# EAGLE library part CY8C284XX (library CY8C4125AXI)
CY8C28403, CY8C28413, CY8C28433, CY8C28445, and CY8C28452 28-Pin PSoC Devices
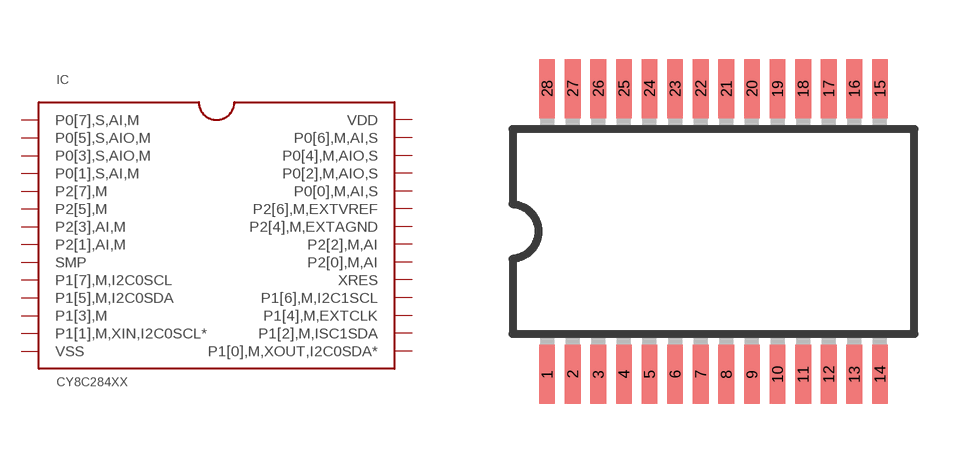
[diagram p15: symbol with the pads of SSOP28; footprint SSOP28]

Designator prefix IC

## CY8C284XX_SSOP28  [SSOP28]
1  P0[7],S,AI,M
2  P0[5],S,AIO,M
3  P0[3],S,AIO,M
4  P0[1],S,AI,M
5  P2[7],M
6  P2[5],M
7  P2[3],AI,M
8  P2[1],AI,M
9  SMP  pwr
10  P1[7],M,I2C0SCL
11  P1[5],M,I2C0SDA
12  P1[3],M
13  P1[1],M,XIN,I2C0SCL*
14  VSS  pwr
15  P1[0],M,XOUT,I2C0SDA*
16  P1[2],M,ISC1SDA
17  P1[4],M,EXTCLK
18  P1[6],M,I2C1SCL
19  XRES
20  P2[0],M,AI
21  P2[2],M,AI
22  P2[4],M,EXTAGND
23  P2[6],M,EXTVREF
24  P0[0],M,AI,S
25  P0[2],M,AIO,S
26  P0[4],M,AIO,S
27  P0[6],M,AI,S
28  VDD  pwr

## Footprint SSOP28 (pad centres in mm)
28-Lead Shrink Small Outline Package SSOP (RS-28) Source: http://www.analog.com/UploadedFiles/Data_Sheets/39677768AD7714_c.pdf
smd 0.4 x 1.5: 1 -4.225,-3.625; 2 -3.575,-3.625; 3 -2.925,-3.625; 4 -2.275,-3.625; 5 -1.625,-3.625; 6 -0.975,-3.625; 7 -0.325,-3.625; 8 0.325,-3.625; 9 0.975,-3.625; 10 1.625,-3.625; 11 2.275,-3.625; 12 2.925,-3.625; 13 3.575,-3.625; 14 4.225,-3.625; 15 4.225,3.625; 16 3.575,3.625; 17 2.925,3.625; 18 2.275,3.625; 19 1.625,3.625; 20 0.975,3.625; 21 0.325,3.625; 22 -0.325,3.625; 23 -0.975,3.625; 24 -1.625,3.625; 25 -2.275,3.625; 26 -2.925,3.625; 27 -3.575,3.625; 28 -4.225,3.625